# Altium schematic symbol library SN74LXC2T45DCUR.Schlib: 1 symbol
Pins are listed as number, name and electrical type; pins without a type are passive.

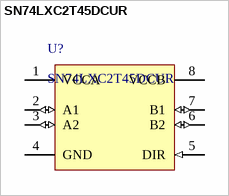
[diagram p0: symbol SN74LXC2T45DCUR]

## SN74LXC2T45DCUR
designator U?
Voltage Level Translator Bidirectional 1 Circuit 2 Channel 420Mbps 8-VSSOP
pins: 1 VCCA (power), 2 A1 (io), 3 A2 (io), 4 GND (power), 5 DIR (in), 6 B2 (io), 7 B1 (io), 8 VCCB (power)